# EAGLE library part SK6812MINIRGBW-BW-P6-A (library edrtech_lib)
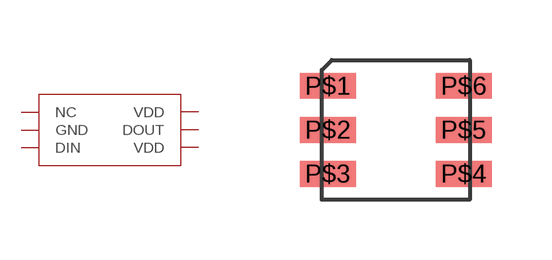
[diagram p64: symbol with the pads of SK6812MINIRGBW-BW-P6-A; footprint SK6812MINIRGBW-BW-P6-A]

Designator prefix -

## SK6812MINIRGBW-BW-P6-A  [SK6812MINIRGBW-BW-P6-A]
P$1  NC  nc
P$2  GND
P$3  DIN  in
P$4  VDD  in
P$5  DOUT  out
P$6  VDD  in

## Footprint SK6812MINIRGBW-BW-P6-A (pad centres in mm)
smd 1.4 x 0.65: P$1 -1.7,1.1; P$2 -1.7,0; P$3 -1.7,-1.1; P$4 1.7,-1.1; P$5 1.7,0; P$6 1.7,1.1